# Altium schematic symbol library M_BOX.Schlib: 1 symbol
Pins are listed as number, name and electrical type; pins without a type are passive.

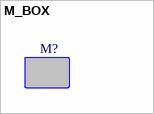
[diagram p0: symbol M_BOX]

## M_BOX
designator M?  (mechanical)